# Altium footprint library L1210.PcbLib: 1 footprints
Each footprint in its own frame and in the unit in brackets; x right, y up, seen from the top. Pads: shape width x height; smd on the part's side, far side on the other; paste and mask are expansions set on the pad; w line width, h text height; cw(c..) or ccw(c..) is an arc to the next point about the centre after c.
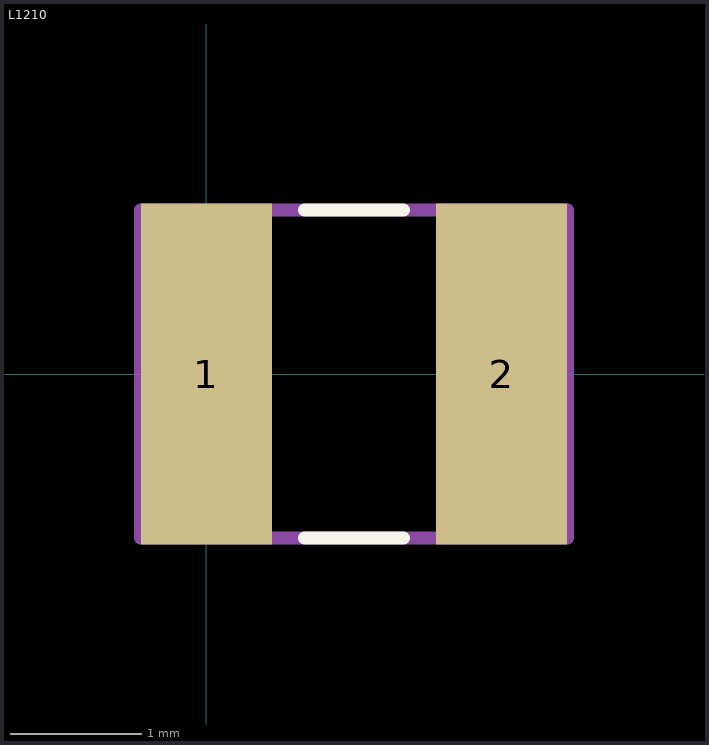
[diagram p0: the footprint, top view; thin cyan lines are the x and y axes]

## L1210 [mm]
pads (2):
  rect 1x2.6 smd: 1(0,0) 2(2.25,0)
Top Overlay:
  lines w0.1: 0.75,-1.25 1.5,-1.25 ; 0.75,1.25 1.5,1.25
Mechanical 15:
  lines w0.1: -0.5,-1.25 2.75,-1.25 2.75,1.25 -0.5,1.25 -0.5,-1.25
3D body: height 1.3, standoff 0, extent -0.5,-1.25 2.75,1.25